# Altium footprint library HV_LIB.PcbLib: 5 footprints
Each footprint in its own frame and in the unit in brackets; x right, y up, seen from the top. Pads: shape width x height; smd on the part's side, far side on the other; paste and mask are expansions set on the pad; w line width, h text height; cw(c..) or ccw(c..) is an arc to the next point about the centre after c.
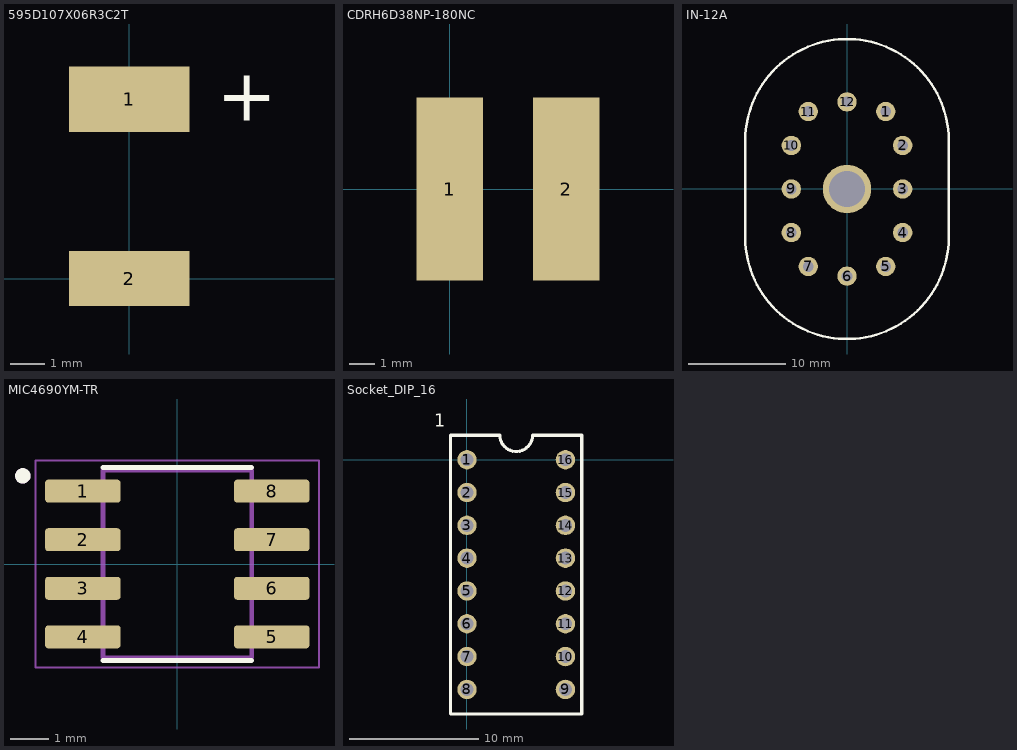
[diagram p0: the footprints below, top view; thin cyan lines are the x and y axes]

## 595D107X06R3C2T [mm]
pads (2):
  rect 3.5x1.9 smd: 1(0,5.2)
  rect 3.5x1.6 smd: 2(0,0)
Top Overlay:
  text "+" at 2.54,4.572 h1.52
3D body: height 3, standoff 0, extent -1.727,-0.787 1.727,6.121

## CDRH6D38NP-180NC [mm]
pads (2):
  rect 2.65x7.3 smd: 1(0,0) 2(4.65,0)
3D body: height 4, standoff 0, extent -1.295,-3.632 5.944,3.632

## IN-12A [mm]
pads (13):
  round 2 hole 1.1: 1(4,8) 2(5.75,4.5) 3(5.75,0) 4(5.75,-4.5) 5(4,-8) 6(0,-9) 7(-4,-8) 8(-5.75,-4.5) 9(-5.75,0) 10(-5.75,4.5) 11(-4,8) 12(0,9)
  round 5 hole 3.7: ""(0,0)
Top Overlay:
  lines w0.254: -10.5,-4.5 ccw(c0,-4.983) 10.5,-4.5 10.5,4.5 ccw(c0,4.983) -10.5,4.5 -10.5,-4.5
3D body: height 28, standoff 0, extent -10,-15.236 10,4.757
3D body: height 28, standoff 0, extent -9.982,-4.674 9.982,4.47
3D body: height 28, standoff 0, extent -10,-4.756 10,15.237

## MIC4690YM-TR [mm]
pads (8):
  rrect25% 1.97x0.6 smd: 1(-2.47,1.905) 2(-2.47,0.635) 3(-2.47,-0.635) 4(-2.47,-1.905) 5(2.47,-1.905) 6(2.47,-0.635) 7(2.47,0.635) 8(2.47,1.905)
Top Overlay:
  circle w0.2: c-4.04,2.305 r0.1
  lines w0.127: -1.947,-2.525 1.947,-2.525 ; -1.947,2.525 1.947,2.525
Mechanical 13:
  circle w0.2: c-4.04,2.305 r0.1
  lines w0.127: -1.947,-2.452 -1.947,2.452 1.947,2.452 1.947,-2.452 -1.947,-2.452
Mechanical 15:
  lines w0.05: -3.705,-2.702 -3.705,2.702 3.705,2.702 3.705,-2.702 -3.705,-2.702

## Socket_DIP_16 [mm]
pads (16):
  round 1.5 hole 1: 1(0,0) 2(0,-2.54) 3(0,-5.08) 4(0,-7.62) 5(0,-10.16) 6(0,-12.7) 7(0,-15.24) 8(0,-17.78) 9(7.62,-17.78) 10(7.62,-15.24) 11(7.62,-12.7) 12(7.62,-10.16) 13(7.62,-7.62) 14(7.62,-5.08) 15(7.62,-2.54) 16(7.62,0)
Top Overlay:
  lines w0.254: -1.27,-19.685 -1.27,1.905 2.54,1.905 ccw(c3.81,1.905) 5.08,1.905 8.89,1.905 8.89,-19.685 -1.27,-19.685
  text "1" at -2.54,2.54 h1